# Altium schematic symbol library EL-sense_Current_and_Power_ Monitors.SchLib: 2 symbols
Pins are listed as number, name and electrical type; pins without a type are passive.

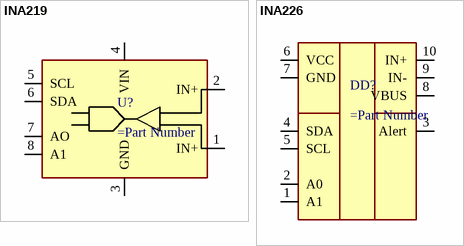
[diagram p0: symbols INA219 to INA226]

## INA219
designator U?
pins: 1 IN+, 2 IN+, 3 GND, 4 VIN, 5 SCL, 6 SDA, 7 AO, 8 A1

## INA226
designator DD?
pins: 1 A1, 2 A0, 3 Alert, 4 SDA, 5 SCL, 6 VCC, 7 GND, 8 VBUS, 9 IN-, 10 IN+